# EAGLE library part RCLAMP3654PAT (library RCLAMP3654PATCT)
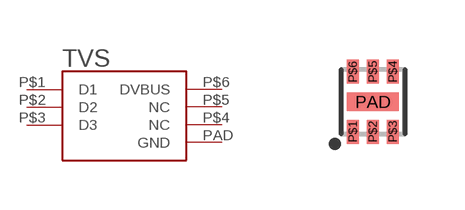
[diagram p0: symbol with the pads of RCLAMP3654PATCT; footprint RCLAMP3654PATCT]

Designator prefix TVS

## RCLAMP3654PAT (DIGIKEY: RCLAMP3654PATCTCT-ND; MFR: SEMTECH; MFR_PN: RCLAMP3654PATCT)  [RCLAMP3654PATCT]
P$1  D1
P$2  D2
P$3  D3
P$4  NC
P$5  NC
P$6  DVBUS
PAD  GND

## Footprint RCLAMP3654PATCT (pad centres in mm)
smd 0.3 x 0.6: P$1 -0.5,-0.75; P$2 0,-0.75; P$3 0.5,-0.75; P$4 0.5,0.75; P$5 0,0.75; P$6 -0.5,0.75
smd 1.3 x 0.45: PAD 0,0